# Altium schematic symbol library zs3l.SchLib: 1 symbol
Pins are listed as number, name and electrical type; pins without a type are passive.

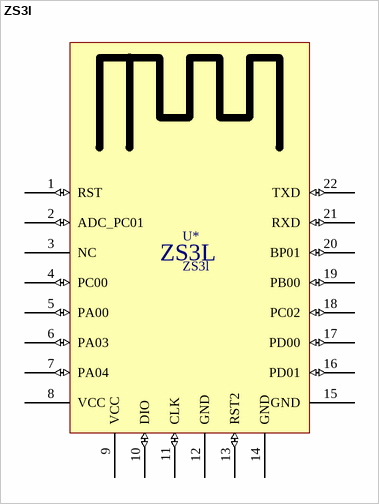
[diagram p0: symbol ZS3l]

## ZS3l
designator U*
ZS3L module on chip EFR32MG21A020F768IM32
footprint zs3l
pins: 1 RST (io), 2 ADC_PC01 (io), 3 NC, 4 PC00 (io), 5 PA00 (io), 6 PA03 (io), 7 PA04 (io), 8 VCC (power), 9 VCC (power), 10 DIO (io), 11 CLK (io), 12 GND (power), 13 RST2 (io), 14 GND (power), 15 GND (power), 16 PD01 (io), 17 PD00 (io), 18 PC02 (io), 19 PB00 (io), 20 BP01 (io), 21 RXD (io), 22 TXD (io)
text: ZS3L